# Altium schematic symbol library RES_390.SchLib: 1 symbol
Pins are listed as number, name and electrical type; pins without a type are passive.

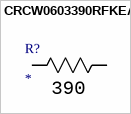
[diagram p0: symbol CRCW0603390RFKEA]

## CRCW0603390RFKEA
designator R?  value 390
Imported; Manufacturer_Part_Number: CRCW0603390RFKEAHP; Vendor: Vishay; Built_By: EMA_UL_Team; C: Copyright (C) 2015 Accelerated Designs. All rights reserved; RefDes: RefDes; Type: DEV
footprint RES_CRCW_0603
footprint RES_CRCW_0603-L
footprint RES_CRCW_0603-M
footprint RESC1609X50X30LL10T20
pins: 1, 2